# EAGLE library part 24MAC402-SSHM-T (library at24mac402)
EEPROM, SERIAL, 2KB, 48-BIT MAC, 8SOIC
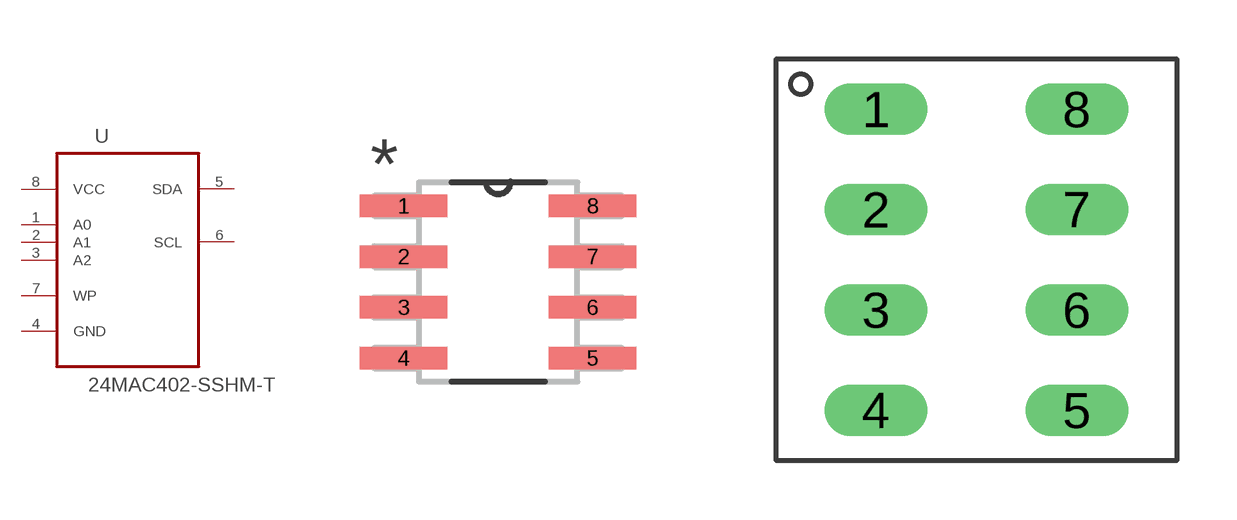
[diagram p0: symbol with the pads of SOIC127P600X175-8N; footprints SOIC127P600X175-8N, PDIP]

Designator prefix U

## 24MAC402-SSHM-T (MPN: 24MAC402-SSHM-T; OC_FARNELL: 2134868; OC_NEWARK: unknown; PACKAGE: 8SOIC; SUPPLIER: ATMEL)  [SOIC127P600X175-8N]
1  A0  in
2  A1  in
3  A2  in
4  GND  pwr
5  SDA
6  SCL  in
7  WP  in
8  VCC  pwr

## 24MAC402-SSHM-TPDIP  [PDIP]
Pads as for SOIC127P600X175-8N

## Footprint SOIC127P600X175-8N (pad centres in mm)
smd 2.184 x 0.559: 1 -2.362,1.905; 2 -2.362,0.635; 3 -2.362,-0.635; 4 -2.362,-1.905; 5 2.362,-1.905; 6 2.362,-0.635; 7 2.362,0.635; 8 2.362,1.905

## Footprint PDIP (pad centres in mm)
drill 0.8 long: 1 -2.54,3.81; 2 -2.54,1.27; 3 -2.54,-1.27; 4 -2.54,-3.81; 5 2.54,-3.81; 6 2.54,-1.27; 7 2.54,1.27; 8 2.54,3.81